# Altium schematic symbol library 5787526-1.SchLib: 1 symbol
Pins are listed as number, name and electrical type; pins without a type are passive.

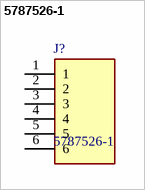
[diagram p0: symbol 5787526-1]

## 5787526-1
designator J?
Body Features: Primary Product Color Black | Configuration Features: Number of Positions 6 | Contact Features: Contact Base Material Phosphor Bronze | Contact Current Rating (Max) 4 AMP | PCB Contact Termination Area Plating Material Tin | Contact Mating Area Plating Material Gold | Contact Underplating Material Nickel | Housing Features: Centerline (Pitch) .08 INCH | Centerline (Pitch) 2 MM | Industry Standards: UL Flammability Rating UL 94V-0 | Mechanical Attachment: PCB Mount Retention Type Hold-Down Pos; Manufacturer_Name: TE Connectivity; Geometry.Height: 8.76mm; Manufacturer_Part_Number: 5787526-1; Mouser Part Number: 571-5787526-1; Mouser Price/Stock: https://www.mouser.co.uk/ProductDetail/TE-Connectivity/5787526-1?qs=Y377PMEofyCxYvQc9q%2F8iQ%3D%3D; Arrow Part Number: *; Arrow Price/Stock: *; Datasheet Link: https://www.te.com/commerce/DocumentDelivery/DDEController?Action=srchrtrv&DocNm=4-1773458-1_2_PIECE_POWER_CONNECTORS_QRG&DocType=Data%20Sheet&DocLang=English&PartCntxt=5787526-1&DocFormat=pdf
footprint 57875261
pins: 1, 2, 3, 4, 5, 6